# Altium integrated library BB Logarithmic Amplifier.IntLib: 4 symbols
Pins are listed as number, name and electrical type; pins without a type are passive.

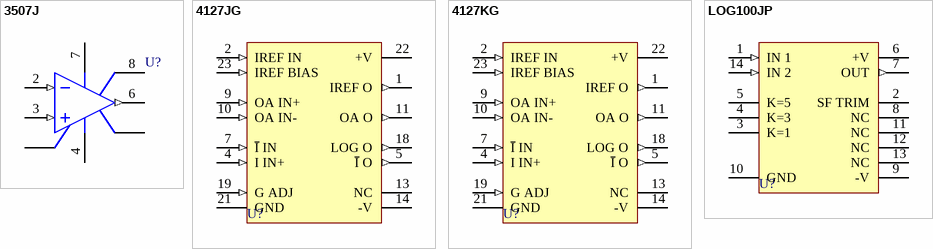
[diagram p0: symbols 3507J to LOG100JP]

## 3507J
designator U?
Fast-Slewing Operational Amplifier; Published: 8-Jun-2000; LatestRevisionDate: 17-Jul-2002; LatestRevisionNote: Re-released for DXP Platform.; DatasheetVersion: 1989; PackageVersion: 1995; PackageReference: ZZ001; Publisher: Altium Limited; PackageDescription: Can; 8 Leads; Pin Circle Dia. 5.08 mm (TO-99); Lead Dia. 0.53 mm (max); ComponentLink1Description: Manufacturer Link; ComponentLink1URL: http://www.ti.com/
footprint ZZ001 (Can; 8 Leads; Pin Circle Dia. 5.08 mm (TO-99); Lead Dia. 0.53 mm (max))
pins: 1 OS ADJ, 2 IN- (in), 3 IN+ (in), 4 V- (power), 5 OS ADJ, 6 OUT (out), 7 V+ (power), 8 BW CNTL

## 4127JG
designator U?
Logarithmic Amplifier; Note: Pins 3, 6, 8, 12, 15, 16, 17, 20 & 24 are not present. Pins 4 & 5 are internally connected.; Published: 8-Jun-2000; LatestRevisionDate: 17-Jul-2002; LatestRevisionNote: Re-released for DXP Platform.; DatasheetVersion: Oct-1993; PackageVersion: revA; PackageReference: ZZ075; Publisher: Altium Limited; PackageDescription: DIP; 24 Round Pins; Row Space 15.24 mm; Pitch 2.54 mm; ComponentLink1Description: Manufacturer Link; ComponentLink1URL: http://www.ti.com/; ComponentLink2Description: Datasheet; ComponentLink2URL: http://www-s.ti.com/sc/ds/4127.pdf
footprint ZZ075 (DIP; 24 Round Pins; Row Space 15.24 mm; Pitch 2.54 mm)
pins: 1 IREF O (out), 2 IREF IN (in), 4 I IN+ (in), 5 ~{I} O (out), 7 ~{I} IN (in), 9 OA IN+ (in), 10 OA IN- (in), 11 OA O (out), 13 NC, 14 -V (power), 18 LOG O (out), 19 G ADJ (in), 21 GND (power), 22 +V (power), 23 IREF BIAS (in)

## 4127KG
designator U?
Logarithmic Amplifier; Note: Pins 3, 6, 8, 12, 15, 16, 17, 20 & 24 are not present. Pins 4 & 5 are internally connected.; Published: 8-Jun-2000; LatestRevisionDate: 17-Jul-2002; LatestRevisionNote: Re-released for DXP Platform.; DatasheetVersion: Oct-1993; PackageVersion: revA; PackageReference: ZZ075; Publisher: Altium Limited; PackageDescription: DIP; 24 Round Pins; Row Space 15.24 mm; Pitch 2.54 mm; ComponentLink1Description: Manufacturer Link; ComponentLink1URL: http://www.ti.com/; ComponentLink2Description: Datasheet; ComponentLink2URL: http://www-s.ti.com/sc/ds/4127.pdf
footprint ZZ075 (DIP; 24 Round Pins; Row Space 15.24 mm; Pitch 2.54 mm)
pins: 1 IREF O (out), 2 IREF IN (in), 4 I IN+ (in), 5 ~{I} O (out), 7 ~{I} IN (in), 9 OA IN+ (in), 10 OA IN- (in), 11 OA O (out), 13 NC, 14 -V (power), 18 LOG O (out), 19 G ADJ (in), 21 GND (power), 22 +V (power), 23 IREF BIAS (in)

## LOG100JP
designator U?
Precision Logarithmic & Log Ratio Amplifier; Note: Pins 8, 11, 12 and 13 are not connected; ComponentAvailability: Not for New Design; Published: 8-Jun-2000; LatestRevisionDate: 17-Jul-2002; LatestRevisionNote: Re-released for DXP Platform.; DatasheetVersion: 1996~1997; PackageVersion: revA; PackageReference: ZZ148; Publisher: Altium Limited; PackageDescription: DIP; 14 Rectangular Pins; Row Space 7.62 mm; Pitch 2.54 mm; ComponentLink1Description: Manufacturer Link; ComponentLink1URL: http://www.ti.com/; ComponentLink2Description: Datasheet; ComponentLink2URL: http://www-s.ti.com/sc/ds/log100.pdf
footprint ZZ148 (DIP; 14 Rectangular Pins; Row Space 7.62 mm; Pitch 2.54 mm)
simulation model LOG100M (SUBCKT)
pins: 1 IN 1 (in), 2 SF TRIM, 3 K=1, 4 K=3, 5 K=5, 6 +V (power), 7 OUT (out), 8 NC, 9 -V (power), 10 GND (power), 11 NC, 12 NC, 13 NC, 14 IN 2 (in)